# Altium schematic symbol library MergenElektronik_Logics_Buffers.SchLib: 2 symbols
Pins are listed as number, name and electrical type; pins without a type are passive.

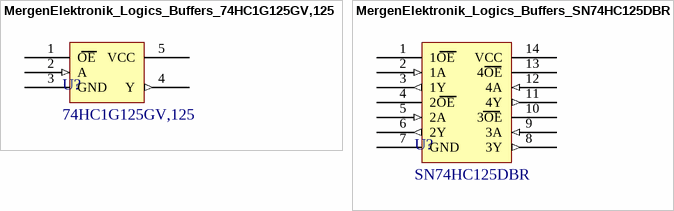
[diagram p0: symbols MergenElektronik_Logics_Buffers_74HC1G125GV,125 to MergenElektronik_Logics_Buffers_SN74HC125DBR]

## MergenElektronik_Logics_Buffers_74HC1G125GV,125
designator U?, comment 74HC1G125GV,125
Mergen Elektronik - Logics - Buffers - 74HC1G125GV,125; Manufacturer: Nexperia USA Inc.; Model: Buffer; Operating Supply Voltage: 2V up to 6V; Digi-Key Number: 1727-6036-1-ND; Manufacturer Number: 74HC1G125GV,125; Mounting Type: Surface Mount; Farnell Number: 3441810; Package: SOT-353; Temperature: -40°C up to 125°C (TA); Value: 74HC1G125GV,125; Voltage Rated: 2V up to 6V; Mouser Number: 771-HC1G125GV125; Supplier 1: Digi-Key; Supplier 2: Mouser; Supplier Part Number 1: 1727-6036-2-ND; Supplier Part Number 2: 771-74HC1G125GV
footprint MergenElektronik_Logics_Buffers_SOT-353 (SOT-353)
pins: 1 OE, 2 A (in), 3 GND (power), 4 Y (out), 5 VCC (power)

## MergenElektronik_Logics_Buffers_SN74HC125DBR
designator U?, comment SN74HC125DBR
Mergen Elektronik - Logics - Buffers - SN74HC125DBR; Manufacturer: Texas Instruments; Model: Buffer; Operating Supply Voltage: 2V up to 6V; Digi-Key Number: 296-8218-1-ND; Manufacturer Number: SN74HC125DBR; Mounting Type: Surface Mount; Package: SOP-14; Temperature: -40°C up to 85°C (TA); Value: SN74HC125DBR; Voltage Rated: 2V up to 6V; Mouser Number: 595-SN74HC125DBR; Supplier 1: Mouser; Supplier 2: Digi-Key; Supplier Part Number 1: 595-SN74HC125DBR; Supplier Part Number 2: 296-8218-1-ND
footprint MergenElektronik_Logics_Buffers_SSOP-14 (SSOP-14)
pins: 1 1OE, 2 1A (in), 3 1Y (out), 4 2OE, 5 2A (in), 6 2Y (out), 7 GND (power), 8 3Y (out), 9 3A (in), 10 3OE, 11 4Y (out), 12 4A (in), 13 4OE, 14 VCC (power)